# EAGLE library part 61206021721 (library Wire-to-Board)
WR-BHD 2.54mm Male Angled Box Header, 60 Pins=>Code : Con_WTB_BHD_2.54_Male_THT_WS_61206021721 <http://katalog.we-online.de/media/thumbs2/eican/thb_Con_WTB_BHD_2.54_Male_THT_WS_6120xx21721_pf2.jpg> Details see: http://katalog.we-online.de/en/em/612_0xx_217_21 Created 2014-06-05, Karrer Zheng 2014 (C) Würth Elektronik
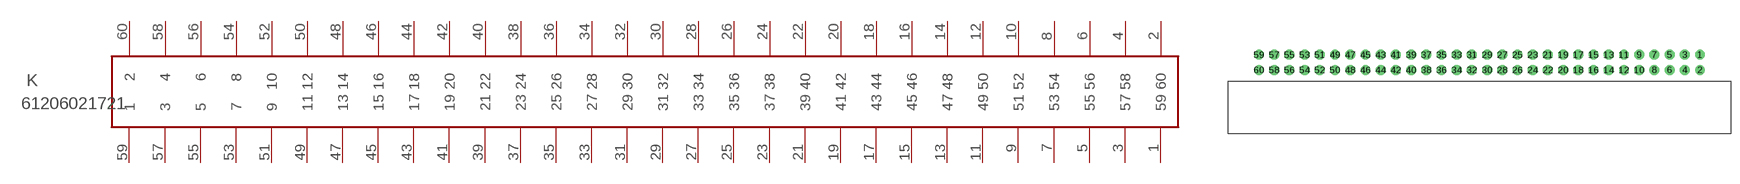
[diagram p204: symbol with the pads of 61206021721; footprint 61206021721]

Designator prefix K

## 61206021721  [61206021721]
1  59  pas
2  60  pas
3  57  pas
4  58  pas
5  55  pas
6  56  pas
7  53  pas
8  54  pas
9  51  pas
10  52  pas
11  49  pas
12  50  pas
13  47  pas
14  48  pas
15  45  pas
16  46  pas
17  43  pas
18  44  pas
19  41  pas
20  42  pas
21  39  pas
22  40  pas
23  37  pas
24  38  pas
25  35  pas
26  36  pas
27  33  pas
28  34  pas
29  31  pas
30  32  pas
31  29  pas
32  30  pas
33  27  pas
34  28  pas
35  25  pas
36  26  pas
37  23  pas
38  24  pas
39  21  pas
40  22  pas
41  19  pas
42  20  pas
43  17  pas
44  18  pas
45  15  pas
46  16  pas
47  13  pas
48  14  pas
49  11  pas
50  12  pas
51  9  pas
52  10  pas
53  7  pas
54  8  pas
55  5  pas
56  6  pas
57  3  pas
58  4  pas
59  1  pas
60  2  pas

## Footprint 61206021721 (pad centres in mm)
WR-BHD 2.54mm Male Angled Box Header, 60 Pins
drill 1.1: 1 2.54,1.27; 2 2.54,-1.27; 3 0,1.27; 4 0,-1.27; 5 -2.54,1.27; 6 -2.54,-1.27; 7 -5.08,1.27; 8 -5.08,-1.27; 9 -7.62,1.27; 10 -7.62,-1.27; 11 -10.16,1.27; 12 -10.16,-1.27; 13 -12.7,1.27; 14 -12.7,-1.27; 15 -15.24,1.27; 16 -15.24,-1.27; 17 -17.78,1.27; 18 -17.78,-1.27; 19 -20.32,1.27; 20 -20.32,-1.27; 21 -22.86,1.27; 22 -22.86,-1.27; 23 -25.4,1.27; 24 -25.4,-1.27; 25 -27.94,1.27; 26 -27.94,-1.27; 27 -30.48,1.27; 28 -30.48,-1.27; 29 -33.02,1.27; 30 -33.02,-1.27; 31 -35.56,1.27; 32 -35.56,-1.27; 33 -38.1,1.27; 34 -38.1,-1.27; 35 -40.64,1.27; 36 -40.64,-1.27; 37 -43.18,1.27; 38 -43.18,-1.27; 39 -45.72,1.27; 40 -45.72,-1.27; 41 -48.26,1.27; 42 -48.26,-1.27; 43 -50.8,1.27; 44 -50.8,-1.27; 45 -53.34,1.27; 46 -53.34,-1.27; 47 -55.88,1.27; 48 -55.88,-1.27; 49 -58.42,1.27; 50 -58.42,-1.27; 51 -60.96,1.27; 52 -60.96,-1.27; 53 -63.5,1.27; 54 -63.5,-1.27; 55 -66.04,1.27; 56 -66.04,-1.27; 57 -68.58,1.27; 58 -68.58,-1.27; 59 -71.12,1.27; 60 -71.12,-1.27